# Altium footprint library BlueLED.PcbLib: 1 footprints
Each footprint in its own frame and in the unit in brackets; x right, y up, seen from the top. Pads: shape width x height; smd on the part's side, far side on the other; paste and mask are expansions set on the pad; w line width, h text height; cw(c..) or ccw(c..) is an arc to the next point about the centre after c.
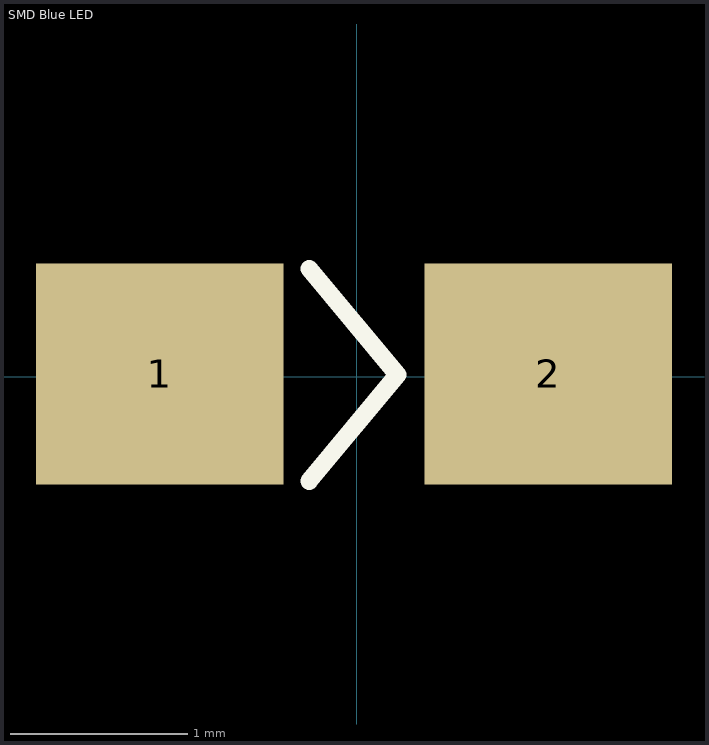
[diagram p0: the footprint, top view; thin cyan lines are the x and y axes]

## SMD Blue LED [mm] "SMD Blue LED"
pads (2):
  rect 1.4x1.25 smd: 1(-1.116,0.015) 2(1.084,0.015)
Top Overlay:
  lines w0.1: -0.27,-0.59 0.23,0.01 -0.27,0.61
3D body "Part4.STEP": height 1.1, standoff 0, extent -1.01,-0.625 1.01,0.625